# EAGLE library part DRV2605L_SMD (library drag-custom)
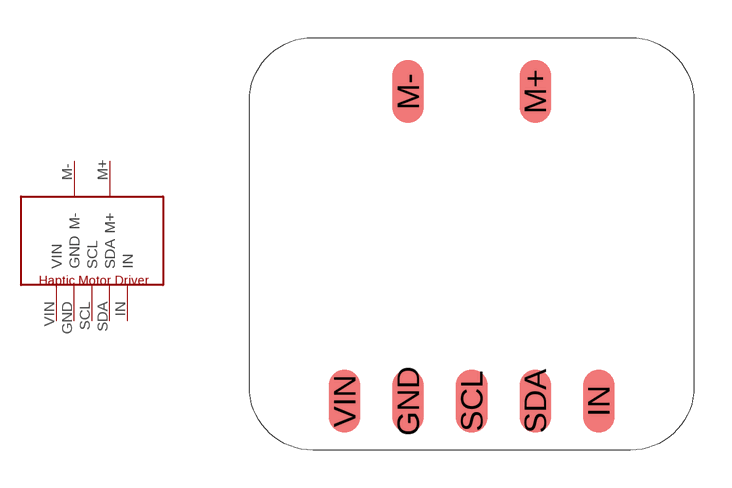
[diagram p17: symbol with the pads of DRV2605L_SMD; footprint DRV2605L_SMD]

Designator prefix -

## DRV2605L_SMD  [DRV2605L_SMD]
GND  GND
IN  IN
M+  M+
M-  M-
SCL  SCL
SDA  SDA
VIN  VIN

## Footprint DRV2605L_SMD (pad centres in mm)
smd 1.27 x 2.54: GND -2.54,-5.715; IN 5.08,-5.715; M+ 2.54,6.668; M- -2.54,6.668; SCL 0,-5.715; SDA 2.54,-5.715; VIN -5.08,-5.715